# Altium footprint library Orbitronics PCB Library.PcbLib: 6 footprints
Each footprint in its own frame and in the unit in brackets; x right, y up, seen from the top. Pads: shape width x height; smd on the part's side, far side on the other; paste and mask are expansions set on the pad; w line width, h text height; cw(c..) or ccw(c..) is an arc to the next point about the centre after c.
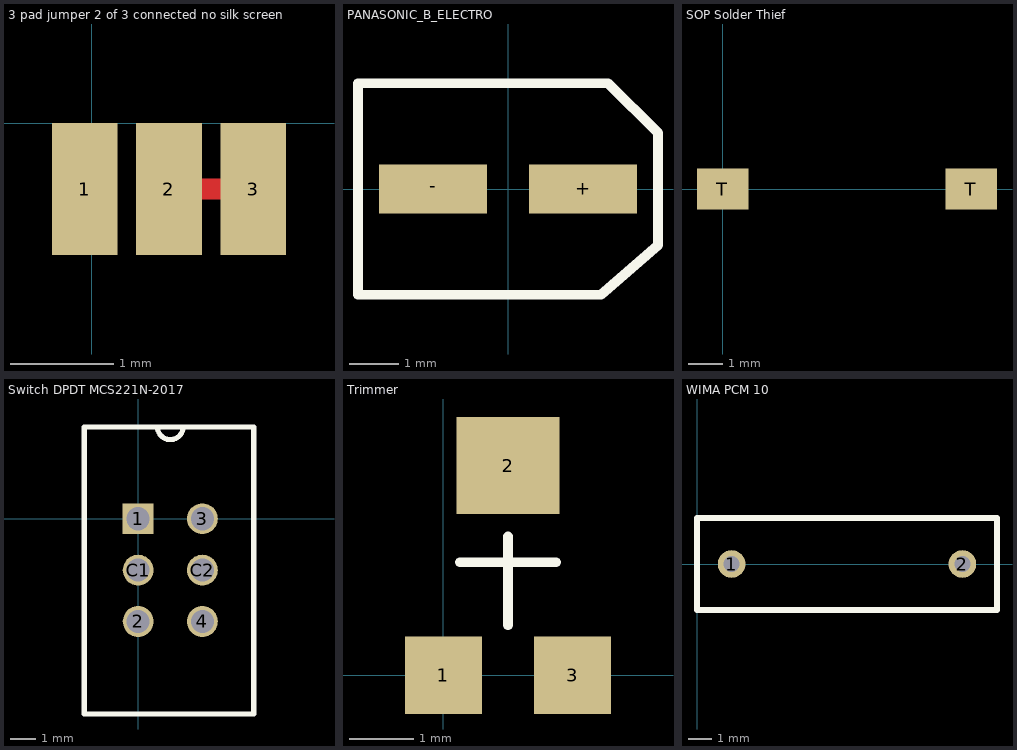
[diagram p0: the footprints below, top view; thin cyan lines are the x and y axes]

## 3 pad jumper 2 of 3 connected no silk screen [mm]
pads (3):
  rect 0.635x1.27 smd: 1(-0.067,-0.634) 2(0.746,-0.634) 3(1.559,-0.634)
Top Layer:
  lines w0.203: 0.746,-0.634 1.381,-0.634

## PANASONIC_B_ELECTRO [mm]
pads (2):
  rect 2.2x1 smd: +(1.524,0) -(-1.524,0)
Top Overlay:
  lines w0.2: 1.778,2.15 2.032,2.15 3.048,1.143 3.048,-1.143 1.891,-2.15 -3.048,-2.15 -3.048,2.15 1.891,2.15

## SOP Solder Thief [mm]
pads (2):
  rect 1.5x1.2 smd: T(0,0) T(7.25,0)

## Switch DPDT MCS221N-2017 [mm]
pads (6):
  rect 1.2x1.2 hole 0.9: 1(0,0)
  round 1.2 hole 0.9: 2(0,-4) 3(2.5,0) 4(2.5,-4) C1(0,-2) C2(2.5,-2)
Top Overlay:
  lines w0.2: -2.1,3.55 -2.1,-7.6 4.5,-7.6 4.5,3.525 ; -2.1,3.575 1.75,3.575 cw(c1.25,3.575) 0.75,3.575 4.5,3.575

## Trimmer [mm]
pads (3):
  rect 1.2x1.2 smd: 1(0,0) 3(2,0)
  rect 1.6x1.5 smd: 2(1,3.25)
Top Overlay:
  lines w0.15: 0.25,1.75 1.75,1.75 ; 1,0.775 1,2.15

## WIMA PCM 10 [mm]
pads (2):
  round 1.2 hole 0.7: 1(1.5,0) 2(11.5,0)
Top Overlay:
  lines w0.254: 0,-2 0,2 13,2 13,-2 0,-2